# EAGLE library part DUAL-PTT-SW (library _RoweTel)
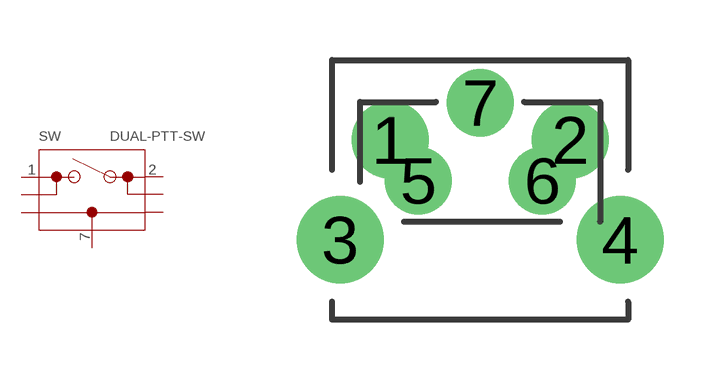
[diagram p69: symbol with the pads of DUAL-PTT-SW; footprint DUAL-PTT-SW]

Designator prefix SW

## DUAL-PTT-SW  [DUAL-PTT-SW]
1  1
2  2
3  3
4  4
5  5
6  6
7  7

## Footprint DUAL-PTT-SW (pad centres in mm)
drill 1 pad 1.93: 1 -2.25,1.25; 2 2.25,1.25
drill 1.3 pad 2.184: 3 -3.5,-1.25; 4 3.5,-1.25
drill 0.8 pad 1.676: 5 -1.55,0.225; 6 1.55,0.225; 7 0,2.175